# Altium footprint library Connector_Samtec_HSEC8.PcbLib: 133 footprints (part 9 of 9)
Each footprint in its own frame and in the unit in brackets; x right, y up, seen from the top. Pads: shape width x height; smd on the part's side, far side on the other; paste and mask are expansions set on the pad; w line width, h text height; cw(c..) or ccw(c..) is an arc to the next point about the centre after c.
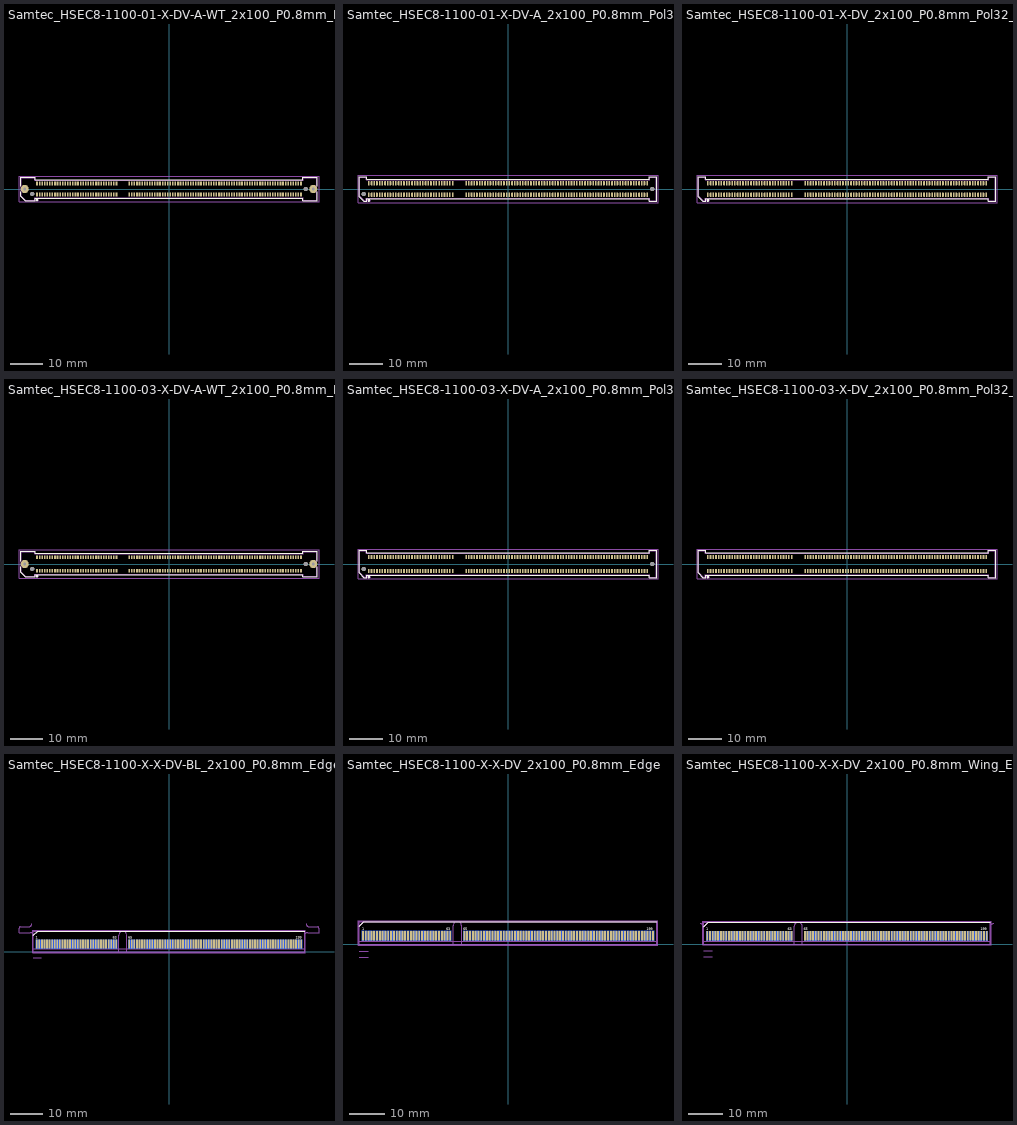
[diagram p8: the footprints below, top view; thin cyan lines are the x and y axes]

## Samtec_HSEC8-1100-01-X-DV-A-WT_2x100_P0.8mm_Pol32_Socket_WeldTabs [mm]
pads (204):
  rrect25% 0.5x1.2 smd: 1(-41.2,-1.7) 2(-41.2,1.7) 3(-40.4,-1.7) 4(-40.4,1.7) 5(-39.6,-1.7) 6(-39.6,1.7) 7(-38.8,-1.7) 8(-38.8,1.7) 9(-38,-1.7) 10(-38,1.7) 11(-37.2,-1.7) 12(-37.2,1.7) 13(-36.4,-1.7) 14(-36.4,1.7) 15(-35.6,-1.7) 16(-35.6,1.7) 17(-34.8,-1.7) 18(-34.8,1.7) 19(-34,-1.7) 20(-34,1.7) 21(-33.2,-1.7) 22(-33.2,1.7) 23(-32.4,-1.7) 24(-32.4,1.7) 25(-31.6,-1.7) 26(-31.6,1.7) 27(-30.8,-1.7) 28(-30.8,1.7) 29(-30,-1.7) 30(-30,1.7) 31(-29.2,-1.7) 32(-29.2,1.7) 33(-28.4,-1.7) 34(-28.4,1.7) 35(-27.6,-1.7) 36(-27.6,1.7) 37(-26.8,-1.7) 38(-26.8,1.7) 39(-26,-1.7) 40(-26,1.7) 41(-25.2,-1.7) 42(-25.2,1.7) 43(-24.4,-1.7) 44(-24.4,1.7) 45(-23.6,-1.7) 46(-23.6,1.7) 47(-22.8,-1.7) 48(-22.8,1.7) 49(-22,-1.7) 50(-22,1.7) 51(-21.2,-1.7) 52(-21.2,1.7) 53(-20.4,-1.7) 54(-20.4,1.7) 55(-19.6,-1.7) 56(-19.6,1.7) 57(-18.8,-1.7) 58(-18.8,1.7) 59(-18,-1.7) 60(-18,1.7) 61(-17.2,-1.7) 62(-17.2,1.7) 63(-16.4,-1.7) 64(-16.4,1.7) 65(-12.4,-1.7) 66(-12.4,1.7) 67(-11.6,-1.7) 68(-11.6,1.7) 69(-10.8,-1.7) 70(-10.8,1.7) 71(-10,-1.7) 72(-10,1.7) 73(-9.2,-1.7) 74(-9.2,1.7) 75(-8.4,-1.7) 76(-8.4,1.7) 77(-7.6,-1.7) 78(-7.6,1.7) 79(-6.8,-1.7) 80(-6.8,1.7) 81(-6,-1.7) 82(-6,1.7) 83(-5.2,-1.7) 84(-5.2,1.7) 85(-4.4,-1.7) 86(-4.4,1.7) 87(-3.6,-1.7) 88(-3.6,1.7) 89(-2.8,-1.7) 90(-2.8,1.7) 91(-2,-1.7) 92(-2,1.7) 93(-1.2,-1.7) 94(-1.2,1.7) 95(-0.4,-1.7) 96(-0.4,1.7) 97(0.4,-1.7) 98(0.4,1.7) 99(1.2,-1.7) 100(1.2,1.7) 101(2,-1.7) 102(2,1.7) 103(2.8,-1.7) 104(2.8,1.7) 105(3.6,-1.7) 106(3.6,1.7) 107(4.4,-1.7) 108(4.4,1.7) 109(5.2,-1.7) 110(5.2,1.7) 111(6,-1.7) 112(6,1.7) 113(6.8,-1.7) 114(6.8,1.7) 115(7.6,-1.7) 116(7.6,1.7) 117(8.4,-1.7) 118(8.4,1.7) 119(9.2,-1.7) 120(9.2,1.7) 121(10,-1.7) 122(10,1.7) 123(10.8,-1.7) 124(10.8,1.7) 125(11.6,-1.7) 126(11.6,1.7) 127(12.4,-1.7) 128(12.4,1.7) 129(13.2,-1.7) 130(13.2,1.7) 131(14,-1.7) 132(14,1.7) 133(14.8,-1.7) 134(14.8,1.7) 135(15.6,-1.7) 136(15.6,1.7) 137(16.4,-1.7) 138(16.4,1.7) 139(17.2,-1.7) 140(17.2,1.7) 141(18,-1.7) 142(18,1.7) 143(18.8,-1.7) 144(18.8,1.7) 145(19.6,-1.7) 146(19.6,1.7) 147(20.4,-1.7) 148(20.4,1.7) 149(21.2,-1.7) 150(21.2,1.7) 151(22,-1.7) 152(22,1.7) 153(22.8,-1.7) 154(22.8,1.7) 155(23.6,-1.7) 156(23.6,1.7) 157(24.4,-1.7) 158(24.4,1.7) 159(25.2,-1.7) 160(25.2,1.7) 161(26,-1.7) 162(26,1.7) 163(26.8,-1.7) 164(26.8,1.7) 165(27.6,-1.7) 166(27.6,1.7) 167(28.4,-1.7) 168(28.4,1.7) 169(29.2,-1.7) 170(29.2,1.7) 171(30,-1.7) 172(30,1.7) 173(30.8,-1.7) 174(30.8,1.7) 175(31.6,-1.7) 176(31.6,1.7) 177(32.4,-1.7) 178(32.4,1.7) 179(33.2,-1.7) 180(33.2,1.7) 181(34,-1.7) 182(34,1.7) 183(34.8,-1.7) 184(34.8,1.7) 185(35.6,-1.7) 186(35.6,1.7) 187(36.4,-1.7) 188(36.4,1.7) 189(37.2,-1.7) 190(37.2,1.7) 191(38,-1.7) 192(38,1.7) 193(38.8,-1.7) 194(38.8,1.7) 195(39.6,-1.7) 196(39.6,1.7) 197(40.4,-1.7) 198(40.4,1.7) 199(41.2,-1.7) 200(41.2,1.7)
  round 2.54 hole 0.84: Un1(-45.05,0) Un4(45.05,0)
  round 1.27 hole 1.27: Un2(-42.7,-1.5) Un3(42.7,0)
F.SilkS:
  circle w0.254: c-41.2,-3.4 r0.25
  lines w0.254: -46.31,-0.868 -46.31,-2.246 -44.946,-3.61 -41.79,-3.61 -41.79,-2.91 41.79,-2.91 41.79,-3.61 46.31,-3.61 46.31,-0.868 ; -46.31,0.868 -46.31,3.61 -41.79,3.61 -41.79,2.91 41.79,2.91 41.79,3.61 46.31,3.61 46.31,0.868
Top Assembly:
  lines w0.254: -46.2,-2.2 -44.9,-3.5 -41.9,-3.5 -41.9,-2.8 41.9,-2.8 41.9,-3.5 46.2,-3.5 46.2,3.5 41.9,3.5 41.9,2.8 -41.9,2.8 -41.9,3.5 -46.2,3.5 -46.2,-2.2 ; -41.6,-3.5 -40.8,-3.5 -41.2,-2.86 -41.6,-3.5
  text "'.Designator'" at -4.047,-0.84 h1
Top Courtyard:
  lines w0.254: -46.83,-4 46.83,-4 46.83,4 -46.83,4 -46.83,-4
Top Designator:
  text ".Designator" at -7.618,-0.508 h1.52

## Samtec_HSEC8-1100-01-X-DV-A_2x100_P0.8mm_Pol32_Socket_AlignmentPins [mm]
pads (202):
  rrect25% 0.5x1.2 smd: 1(-41.2,-1.7) 2(-41.2,1.7) 3(-40.4,-1.7) 4(-40.4,1.7) 5(-39.6,-1.7) 6(-39.6,1.7) 7(-38.8,-1.7) 8(-38.8,1.7) 9(-38,-1.7) 10(-38,1.7) 11(-37.2,-1.7) 12(-37.2,1.7) 13(-36.4,-1.7) 14(-36.4,1.7) 15(-35.6,-1.7) 16(-35.6,1.7) 17(-34.8,-1.7) 18(-34.8,1.7) 19(-34,-1.7) 20(-34,1.7) 21(-33.2,-1.7) 22(-33.2,1.7) 23(-32.4,-1.7) 24(-32.4,1.7) 25(-31.6,-1.7) 26(-31.6,1.7) 27(-30.8,-1.7) 28(-30.8,1.7) 29(-30,-1.7) 30(-30,1.7) 31(-29.2,-1.7) 32(-29.2,1.7) 33(-28.4,-1.7) 34(-28.4,1.7) 35(-27.6,-1.7) 36(-27.6,1.7) 37(-26.8,-1.7) 38(-26.8,1.7) 39(-26,-1.7) 40(-26,1.7) 41(-25.2,-1.7) 42(-25.2,1.7) 43(-24.4,-1.7) 44(-24.4,1.7) 45(-23.6,-1.7) 46(-23.6,1.7) 47(-22.8,-1.7) 48(-22.8,1.7) 49(-22,-1.7) 50(-22,1.7) 51(-21.2,-1.7) 52(-21.2,1.7) 53(-20.4,-1.7) 54(-20.4,1.7) 55(-19.6,-1.7) 56(-19.6,1.7) 57(-18.8,-1.7) 58(-18.8,1.7) 59(-18,-1.7) 60(-18,1.7) 61(-17.2,-1.7) 62(-17.2,1.7) 63(-16.4,-1.7) 64(-16.4,1.7) 65(-12.4,-1.7) 66(-12.4,1.7) 67(-11.6,-1.7) 68(-11.6,1.7) 69(-10.8,-1.7) 70(-10.8,1.7) 71(-10,-1.7) 72(-10,1.7) 73(-9.2,-1.7) 74(-9.2,1.7) 75(-8.4,-1.7) 76(-8.4,1.7) 77(-7.6,-1.7) 78(-7.6,1.7) 79(-6.8,-1.7) 80(-6.8,1.7) 81(-6,-1.7) 82(-6,1.7) 83(-5.2,-1.7) 84(-5.2,1.7) 85(-4.4,-1.7) 86(-4.4,1.7) 87(-3.6,-1.7) 88(-3.6,1.7) 89(-2.8,-1.7) 90(-2.8,1.7) 91(-2,-1.7) 92(-2,1.7) 93(-1.2,-1.7) 94(-1.2,1.7) 95(-0.4,-1.7) 96(-0.4,1.7) 97(0.4,-1.7) 98(0.4,1.7) 99(1.2,-1.7) 100(1.2,1.7) 101(2,-1.7) 102(2,1.7) 103(2.8,-1.7) 104(2.8,1.7) 105(3.6,-1.7) 106(3.6,1.7) 107(4.4,-1.7) 108(4.4,1.7) 109(5.2,-1.7) 110(5.2,1.7) 111(6,-1.7) 112(6,1.7) 113(6.8,-1.7) 114(6.8,1.7) 115(7.6,-1.7) 116(7.6,1.7) 117(8.4,-1.7) 118(8.4,1.7) 119(9.2,-1.7) 120(9.2,1.7) 121(10,-1.7) 122(10,1.7) 123(10.8,-1.7) 124(10.8,1.7) 125(11.6,-1.7) 126(11.6,1.7) 127(12.4,-1.7) 128(12.4,1.7) 129(13.2,-1.7) 130(13.2,1.7) 131(14,-1.7) 132(14,1.7) 133(14.8,-1.7) 134(14.8,1.7) 135(15.6,-1.7) 136(15.6,1.7) 137(16.4,-1.7) 138(16.4,1.7) 139(17.2,-1.7) 140(17.2,1.7) 141(18,-1.7) 142(18,1.7) 143(18.8,-1.7) 144(18.8,1.7) 145(19.6,-1.7) 146(19.6,1.7) 147(20.4,-1.7) 148(20.4,1.7) 149(21.2,-1.7) 150(21.2,1.7) 151(22,-1.7) 152(22,1.7) 153(22.8,-1.7) 154(22.8,1.7) 155(23.6,-1.7) 156(23.6,1.7) 157(24.4,-1.7) 158(24.4,1.7) 159(25.2,-1.7) 160(25.2,1.7) 161(26,-1.7) 162(26,1.7) 163(26.8,-1.7) 164(26.8,1.7) 165(27.6,-1.7) 166(27.6,1.7) 167(28.4,-1.7) 168(28.4,1.7) 169(29.2,-1.7) 170(29.2,1.7) 171(30,-1.7) 172(30,1.7) 173(30.8,-1.7) 174(30.8,1.7) 175(31.6,-1.7) 176(31.6,1.7) 177(32.4,-1.7) 178(32.4,1.7) 179(33.2,-1.7) 180(33.2,1.7) 181(34,-1.7) 182(34,1.7) 183(34.8,-1.7) 184(34.8,1.7) 185(35.6,-1.7) 186(35.6,1.7) 187(36.4,-1.7) 188(36.4,1.7) 189(37.2,-1.7) 190(37.2,1.7) 191(38,-1.7) 192(38,1.7) 193(38.8,-1.7) 194(38.8,1.7) 195(39.6,-1.7) 196(39.6,1.7) 197(40.4,-1.7) 198(40.4,1.7) 199(41.2,-1.7) 200(41.2,1.7)
  round 1.27 hole 1.27: Un1(-42.7,-1.5) Un2(42.7,0)
F.SilkS:
  circle w0.254: c-41.2,-3.4 r0.25
  lines w0.254: -44.01,-2.246 -42.646,-3.61 -41.79,-3.61 -41.79,-2.91 41.79,-2.91 41.79,-3.61 44.01,-3.61 44.01,3.61 41.79,3.61 41.79,2.91 -41.79,2.91 -41.79,3.61 -44.01,3.61 -44.01,-2.246
Top Assembly:
  lines w0.254: -43.9,-2.2 -42.6,-3.5 -41.9,-3.5 -41.9,-2.8 41.9,-2.8 41.9,-3.5 43.9,-3.5 43.9,3.5 41.9,3.5 41.9,2.8 -41.9,2.8 -41.9,3.5 -43.9,3.5 -43.9,-2.2 ; -41.6,-3.5 -40.8,-3.5 -41.2,-2.86 -41.6,-3.5
  text "'.Designator'" at -4.047,-0.84 h1
Top Courtyard:
  lines w0.254: -44.41,-4 44.41,-4 44.41,4 -44.41,4 -44.41,-4
Top Designator:
  text ".Designator" at -7.618,-0.508 h1.52

## Samtec_HSEC8-1100-01-X-DV_2x100_P0.8mm_Pol32_Socket [mm]
pads (200):
  rrect25% 0.5x1.2 smd: 1(-41.2,-1.7) 2(-41.2,1.7) 3(-40.4,-1.7) 4(-40.4,1.7) 5(-39.6,-1.7) 6(-39.6,1.7) 7(-38.8,-1.7) 8(-38.8,1.7) 9(-38,-1.7) 10(-38,1.7) 11(-37.2,-1.7) 12(-37.2,1.7) 13(-36.4,-1.7) 14(-36.4,1.7) 15(-35.6,-1.7) 16(-35.6,1.7) 17(-34.8,-1.7) 18(-34.8,1.7) 19(-34,-1.7) 20(-34,1.7) 21(-33.2,-1.7) 22(-33.2,1.7) 23(-32.4,-1.7) 24(-32.4,1.7) 25(-31.6,-1.7) 26(-31.6,1.7) 27(-30.8,-1.7) 28(-30.8,1.7) 29(-30,-1.7) 30(-30,1.7) 31(-29.2,-1.7) 32(-29.2,1.7) 33(-28.4,-1.7) 34(-28.4,1.7) 35(-27.6,-1.7) 36(-27.6,1.7) 37(-26.8,-1.7) 38(-26.8,1.7) 39(-26,-1.7) 40(-26,1.7) 41(-25.2,-1.7) 42(-25.2,1.7) 43(-24.4,-1.7) 44(-24.4,1.7) 45(-23.6,-1.7) 46(-23.6,1.7) 47(-22.8,-1.7) 48(-22.8,1.7) 49(-22,-1.7) 50(-22,1.7) 51(-21.2,-1.7) 52(-21.2,1.7) 53(-20.4,-1.7) 54(-20.4,1.7) 55(-19.6,-1.7) 56(-19.6,1.7) 57(-18.8,-1.7) 58(-18.8,1.7) 59(-18,-1.7) 60(-18,1.7) 61(-17.2,-1.7) 62(-17.2,1.7) 63(-16.4,-1.7) 64(-16.4,1.7) 65(-12.4,-1.7) 66(-12.4,1.7) 67(-11.6,-1.7) 68(-11.6,1.7) 69(-10.8,-1.7) 70(-10.8,1.7) 71(-10,-1.7) 72(-10,1.7) 73(-9.2,-1.7) 74(-9.2,1.7) 75(-8.4,-1.7) 76(-8.4,1.7) 77(-7.6,-1.7) 78(-7.6,1.7) 79(-6.8,-1.7) 80(-6.8,1.7) 81(-6,-1.7) 82(-6,1.7) 83(-5.2,-1.7) 84(-5.2,1.7) 85(-4.4,-1.7) 86(-4.4,1.7) 87(-3.6,-1.7) 88(-3.6,1.7) 89(-2.8,-1.7) 90(-2.8,1.7) 91(-2,-1.7) 92(-2,1.7) 93(-1.2,-1.7) 94(-1.2,1.7) 95(-0.4,-1.7) 96(-0.4,1.7) 97(0.4,-1.7) 98(0.4,1.7) 99(1.2,-1.7) 100(1.2,1.7) 101(2,-1.7) 102(2,1.7) 103(2.8,-1.7) 104(2.8,1.7) 105(3.6,-1.7) 106(3.6,1.7) 107(4.4,-1.7) 108(4.4,1.7) 109(5.2,-1.7) 110(5.2,1.7) 111(6,-1.7) 112(6,1.7) 113(6.8,-1.7) 114(6.8,1.7) 115(7.6,-1.7) 116(7.6,1.7) 117(8.4,-1.7) 118(8.4,1.7) 119(9.2,-1.7) 120(9.2,1.7) 121(10,-1.7) 122(10,1.7) 123(10.8,-1.7) 124(10.8,1.7) 125(11.6,-1.7) 126(11.6,1.7) 127(12.4,-1.7) 128(12.4,1.7) 129(13.2,-1.7) 130(13.2,1.7) 131(14,-1.7) 132(14,1.7) 133(14.8,-1.7) 134(14.8,1.7) 135(15.6,-1.7) 136(15.6,1.7) 137(16.4,-1.7) 138(16.4,1.7) 139(17.2,-1.7) 140(17.2,1.7) 141(18,-1.7) 142(18,1.7) 143(18.8,-1.7) 144(18.8,1.7) 145(19.6,-1.7) 146(19.6,1.7) 147(20.4,-1.7) 148(20.4,1.7) 149(21.2,-1.7) 150(21.2,1.7) 151(22,-1.7) 152(22,1.7) 153(22.8,-1.7) 154(22.8,1.7) 155(23.6,-1.7) 156(23.6,1.7) 157(24.4,-1.7) 158(24.4,1.7) 159(25.2,-1.7) 160(25.2,1.7) 161(26,-1.7) 162(26,1.7) 163(26.8,-1.7) 164(26.8,1.7) 165(27.6,-1.7) 166(27.6,1.7) 167(28.4,-1.7) 168(28.4,1.7) 169(29.2,-1.7) 170(29.2,1.7) 171(30,-1.7) 172(30,1.7) 173(30.8,-1.7) 174(30.8,1.7) 175(31.6,-1.7) 176(31.6,1.7) 177(32.4,-1.7) 178(32.4,1.7) 179(33.2,-1.7) 180(33.2,1.7) 181(34,-1.7) 182(34,1.7) 183(34.8,-1.7) 184(34.8,1.7) 185(35.6,-1.7) 186(35.6,1.7) 187(36.4,-1.7) 188(36.4,1.7) 189(37.2,-1.7) 190(37.2,1.7) 191(38,-1.7) 192(38,1.7) 193(38.8,-1.7) 194(38.8,1.7) 195(39.6,-1.7) 196(39.6,1.7) 197(40.4,-1.7) 198(40.4,1.7) 199(41.2,-1.7) 200(41.2,1.7)
F.SilkS:
  circle w0.254: c-41.2,-3.4 r0.25
  lines w0.254: -44.01,-2.246 -42.646,-3.61 -41.79,-3.61 -41.79,-2.91 41.79,-2.91 41.79,-3.61 44.01,-3.61 44.01,3.61 41.79,3.61 41.79,2.91 -41.79,2.91 -41.79,3.61 -44.01,3.61 -44.01,-2.246
Top Assembly:
  lines w0.254: -43.9,-2.2 -42.6,-3.5 -41.9,-3.5 -41.9,-2.8 41.9,-2.8 41.9,-3.5 43.9,-3.5 43.9,3.5 41.9,3.5 41.9,2.8 -41.9,2.8 -41.9,3.5 -43.9,3.5 -43.9,-2.2 ; -41.6,-3.5 -40.8,-3.5 -41.2,-2.86 -41.6,-3.5
  text "'.Designator'" at -4.047,-0.84 h1
Top Courtyard:
  lines w0.254: -44.41,-4 44.41,-4 44.41,4 -44.41,4 -44.41,-4
Top Designator:
  text ".Designator" at -7.618,-0.508 h1.52

## Samtec_HSEC8-1100-03-X-DV-A-WT_2x100_P0.8mm_Pol32_Socket_WeldTabs [mm]
pads (204):
  rrect25% 0.5x1.2 smd: 1(-41.2,-2.095) 2(-41.2,2.095) 3(-40.4,-2.095) 4(-40.4,2.095) 5(-39.6,-2.095) 6(-39.6,2.095) 7(-38.8,-2.095) 8(-38.8,2.095) 9(-38,-2.095) 10(-38,2.095) 11(-37.2,-2.095) 12(-37.2,2.095) 13(-36.4,-2.095) 14(-36.4,2.095) 15(-35.6,-2.095) 16(-35.6,2.095) 17(-34.8,-2.095) 18(-34.8,2.095) 19(-34,-2.095) 20(-34,2.095) 21(-33.2,-2.095) 22(-33.2,2.095) 23(-32.4,-2.095) 24(-32.4,2.095) 25(-31.6,-2.095) 26(-31.6,2.095) 27(-30.8,-2.095) 28(-30.8,2.095) 29(-30,-2.095) 30(-30,2.095) 31(-29.2,-2.095) 32(-29.2,2.095) 33(-28.4,-2.095) 34(-28.4,2.095) 35(-27.6,-2.095) 36(-27.6,2.095) 37(-26.8,-2.095) 38(-26.8,2.095) 39(-26,-2.095) 40(-26,2.095) 41(-25.2,-2.095) 42(-25.2,2.095) 43(-24.4,-2.095) 44(-24.4,2.095) 45(-23.6,-2.095) 46(-23.6,2.095) 47(-22.8,-2.095) 48(-22.8,2.095) 49(-22,-2.095) 50(-22,2.095) 51(-21.2,-2.095) 52(-21.2,2.095) 53(-20.4,-2.095) 54(-20.4,2.095) 55(-19.6,-2.095) 56(-19.6,2.095) 57(-18.8,-2.095) 58(-18.8,2.095) 59(-18,-2.095) 60(-18,2.095) 61(-17.2,-2.095) 62(-17.2,2.095) 63(-16.4,-2.095) 64(-16.4,2.095) 65(-12.4,-2.095) 66(-12.4,2.095) 67(-11.6,-2.095) 68(-11.6,2.095) 69(-10.8,-2.095) 70(-10.8,2.095) 71(-10,-2.095) 72(-10,2.095) 73(-9.2,-2.095) 74(-9.2,2.095) 75(-8.4,-2.095) 76(-8.4,2.095) 77(-7.6,-2.095) 78(-7.6,2.095) 79(-6.8,-2.095) 80(-6.8,2.095) 81(-6,-2.095) 82(-6,2.095) 83(-5.2,-2.095) 84(-5.2,2.095) 85(-4.4,-2.095) 86(-4.4,2.095) 87(-3.6,-2.095) 88(-3.6,2.095) 89(-2.8,-2.095) 90(-2.8,2.095) 91(-2,-2.095) 92(-2,2.095) 93(-1.2,-2.095) 94(-1.2,2.095) 95(-0.4,-2.095) 96(-0.4,2.095) 97(0.4,-2.095) 98(0.4,2.095) 99(1.2,-2.095) 100(1.2,2.095) 101(2,-2.095) 102(2,2.095) 103(2.8,-2.095) 104(2.8,2.095) 105(3.6,-2.095) 106(3.6,2.095) 107(4.4,-2.095) 108(4.4,2.095) 109(5.2,-2.095) 110(5.2,2.095) 111(6,-2.095) 112(6,2.095) 113(6.8,-2.095) 114(6.8,2.095) 115(7.6,-2.095) 116(7.6,2.095) 117(8.4,-2.095) 118(8.4,2.095) 119(9.2,-2.095) 120(9.2,2.095) 121(10,-2.095) 122(10,2.095) 123(10.8,-2.095) 124(10.8,2.095) 125(11.6,-2.095) 126(11.6,2.095) 127(12.4,-2.095) 128(12.4,2.095) 129(13.2,-2.095) 130(13.2,2.095) 131(14,-2.095) 132(14,2.095) 133(14.8,-2.095) 134(14.8,2.095) 135(15.6,-2.095) 136(15.6,2.095) 137(16.4,-2.095) 138(16.4,2.095) 139(17.2,-2.095) 140(17.2,2.095) 141(18,-2.095) 142(18,2.095) 143(18.8,-2.095) 144(18.8,2.095) 145(19.6,-2.095) 146(19.6,2.095) 147(20.4,-2.095) 148(20.4,2.095) 149(21.2,-2.095) 150(21.2,2.095) 151(22,-2.095) 152(22,2.095) 153(22.8,-2.095) 154(22.8,2.095) 155(23.6,-2.095) 156(23.6,2.095) 157(24.4,-2.095) 158(24.4,2.095) 159(25.2,-2.095) 160(25.2,2.095) 161(26,-2.095) 162(26,2.095) 163(26.8,-2.095) 164(26.8,2.095) 165(27.6,-2.095) 166(27.6,2.095) 167(28.4,-2.095) 168(28.4,2.095) 169(29.2,-2.095) 170(29.2,2.095) 171(30,-2.095) 172(30,2.095) 173(30.8,-2.095) 174(30.8,2.095) 175(31.6,-2.095) 176(31.6,2.095) 177(32.4,-2.095) 178(32.4,2.095) 179(33.2,-2.095) 180(33.2,2.095) 181(34,-2.095) 182(34,2.095) 183(34.8,-2.095) 184(34.8,2.095) 185(35.6,-2.095) 186(35.6,2.095) 187(36.4,-2.095) 188(36.4,2.095) 189(37.2,-2.095) 190(37.2,2.095) 191(38,-2.095) 192(38,2.095) 193(38.8,-2.095) 194(38.8,2.095) 195(39.6,-2.095) 196(39.6,2.095) 197(40.4,-2.095) 198(40.4,2.095) 199(41.2,-2.095) 200(41.2,2.095)
  round 2.54 hole 0.84: Un1(-45.05,0) Un4(45.05,0)
  round 1.27 hole 1.27: Un2(-42.7,-1.5) Un3(42.7,0)
F.SilkS:
  circle w0.254: c-41.2,-3.795 r0.25
  lines w0.254: -46.31,-0.868 -46.31,-2.641 -44.946,-4.005 -41.79,-4.005 -41.79,-3.305 41.79,-3.305 41.79,-4.005 46.31,-4.005 46.31,-0.868 ; -46.31,0.868 -46.31,4.005 -41.79,4.005 -41.79,3.305 41.79,3.305 41.79,4.005 46.31,4.005 46.31,0.868
Top Assembly:
  lines w0.254: -46.2,-2.595 -44.9,-3.895 -41.9,-3.895 -41.9,-3.195 41.9,-3.195 41.9,-3.895 46.2,-3.895 46.2,3.895 41.9,3.895 41.9,3.195 -41.9,3.195 -41.9,3.895 -46.2,3.895 -46.2,-2.595 ; -41.6,-3.895 -40.8,-3.895 -41.2,-3.255 -41.6,-3.895
  text "'.Designator'" at -4.047,-0.84 h1
Top Courtyard:
  lines w0.254: -46.83,-4.4 46.83,-4.4 46.83,4.4 -46.83,4.4 -46.83,-4.4
Top Designator:
  text ".Designator" at -7.618,-0.508 h1.52

## Samtec_HSEC8-1100-03-X-DV-A_2x100_P0.8mm_Pol32_Socket_AlignmentPins [mm]
pads (202):
  rrect25% 0.5x1.2 smd: 1(-41.2,-2.095) 2(-41.2,2.095) 3(-40.4,-2.095) 4(-40.4,2.095) 5(-39.6,-2.095) 6(-39.6,2.095) 7(-38.8,-2.095) 8(-38.8,2.095) 9(-38,-2.095) 10(-38,2.095) 11(-37.2,-2.095) 12(-37.2,2.095) 13(-36.4,-2.095) 14(-36.4,2.095) 15(-35.6,-2.095) 16(-35.6,2.095) 17(-34.8,-2.095) 18(-34.8,2.095) 19(-34,-2.095) 20(-34,2.095) 21(-33.2,-2.095) 22(-33.2,2.095) 23(-32.4,-2.095) 24(-32.4,2.095) 25(-31.6,-2.095) 26(-31.6,2.095) 27(-30.8,-2.095) 28(-30.8,2.095) 29(-30,-2.095) 30(-30,2.095) 31(-29.2,-2.095) 32(-29.2,2.095) 33(-28.4,-2.095) 34(-28.4,2.095) 35(-27.6,-2.095) 36(-27.6,2.095) 37(-26.8,-2.095) 38(-26.8,2.095) 39(-26,-2.095) 40(-26,2.095) 41(-25.2,-2.095) 42(-25.2,2.095) 43(-24.4,-2.095) 44(-24.4,2.095) 45(-23.6,-2.095) 46(-23.6,2.095) 47(-22.8,-2.095) 48(-22.8,2.095) 49(-22,-2.095) 50(-22,2.095) 51(-21.2,-2.095) 52(-21.2,2.095) 53(-20.4,-2.095) 54(-20.4,2.095) 55(-19.6,-2.095) 56(-19.6,2.095) 57(-18.8,-2.095) 58(-18.8,2.095) 59(-18,-2.095) 60(-18,2.095) 61(-17.2,-2.095) 62(-17.2,2.095) 63(-16.4,-2.095) 64(-16.4,2.095) 65(-12.4,-2.095) 66(-12.4,2.095) 67(-11.6,-2.095) 68(-11.6,2.095) 69(-10.8,-2.095) 70(-10.8,2.095) 71(-10,-2.095) 72(-10,2.095) 73(-9.2,-2.095) 74(-9.2,2.095) 75(-8.4,-2.095) 76(-8.4,2.095) 77(-7.6,-2.095) 78(-7.6,2.095) 79(-6.8,-2.095) 80(-6.8,2.095) 81(-6,-2.095) 82(-6,2.095) 83(-5.2,-2.095) 84(-5.2,2.095) 85(-4.4,-2.095) 86(-4.4,2.095) 87(-3.6,-2.095) 88(-3.6,2.095) 89(-2.8,-2.095) 90(-2.8,2.095) 91(-2,-2.095) 92(-2,2.095) 93(-1.2,-2.095) 94(-1.2,2.095) 95(-0.4,-2.095) 96(-0.4,2.095) 97(0.4,-2.095) 98(0.4,2.095) 99(1.2,-2.095) 100(1.2,2.095) 101(2,-2.095) 102(2,2.095) 103(2.8,-2.095) 104(2.8,2.095) 105(3.6,-2.095) 106(3.6,2.095) 107(4.4,-2.095) 108(4.4,2.095) 109(5.2,-2.095) 110(5.2,2.095) 111(6,-2.095) 112(6,2.095) 113(6.8,-2.095) 114(6.8,2.095) 115(7.6,-2.095) 116(7.6,2.095) 117(8.4,-2.095) 118(8.4,2.095) 119(9.2,-2.095) 120(9.2,2.095) 121(10,-2.095) 122(10,2.095) 123(10.8,-2.095) 124(10.8,2.095) 125(11.6,-2.095) 126(11.6,2.095) 127(12.4,-2.095) 128(12.4,2.095) 129(13.2,-2.095) 130(13.2,2.095) 131(14,-2.095) 132(14,2.095) 133(14.8,-2.095) 134(14.8,2.095) 135(15.6,-2.095) 136(15.6,2.095) 137(16.4,-2.095) 138(16.4,2.095) 139(17.2,-2.095) 140(17.2,2.095) 141(18,-2.095) 142(18,2.095) 143(18.8,-2.095) 144(18.8,2.095) 145(19.6,-2.095) 146(19.6,2.095) 147(20.4,-2.095) 148(20.4,2.095) 149(21.2,-2.095) 150(21.2,2.095) 151(22,-2.095) 152(22,2.095) 153(22.8,-2.095) 154(22.8,2.095) 155(23.6,-2.095) 156(23.6,2.095) 157(24.4,-2.095) 158(24.4,2.095) 159(25.2,-2.095) 160(25.2,2.095) 161(26,-2.095) 162(26,2.095) 163(26.8,-2.095) 164(26.8,2.095) 165(27.6,-2.095) 166(27.6,2.095) 167(28.4,-2.095) 168(28.4,2.095) 169(29.2,-2.095) 170(29.2,2.095) 171(30,-2.095) 172(30,2.095) 173(30.8,-2.095) 174(30.8,2.095) 175(31.6,-2.095) 176(31.6,2.095) 177(32.4,-2.095) 178(32.4,2.095) 179(33.2,-2.095) 180(33.2,2.095) 181(34,-2.095) 182(34,2.095) 183(34.8,-2.095) 184(34.8,2.095) 185(35.6,-2.095) 186(35.6,2.095) 187(36.4,-2.095) 188(36.4,2.095) 189(37.2,-2.095) 190(37.2,2.095) 191(38,-2.095) 192(38,2.095) 193(38.8,-2.095) 194(38.8,2.095) 195(39.6,-2.095) 196(39.6,2.095) 197(40.4,-2.095) 198(40.4,2.095) 199(41.2,-2.095) 200(41.2,2.095)
  round 1.27 hole 1.27: Un1(-42.7,-1.5) Un2(42.7,0)
F.SilkS:
  circle w0.254: c-41.2,-3.795 r0.25
  lines w0.254: -44.01,-2.641 -42.646,-4.005 -41.79,-4.005 -41.79,-3.305 41.79,-3.305 41.79,-4.005 44.01,-4.005 44.01,4.005 41.79,4.005 41.79,3.305 -41.79,3.305 -41.79,4.005 -44.01,4.005 -44.01,-2.641
Top Assembly:
  lines w0.254: -43.9,-2.595 -42.6,-3.895 -41.9,-3.895 -41.9,-3.195 41.9,-3.195 41.9,-3.895 43.9,-3.895 43.9,3.895 41.9,3.895 41.9,3.195 -41.9,3.195 -41.9,3.895 -43.9,3.895 -43.9,-2.595 ; -41.6,-3.895 -40.8,-3.895 -41.2,-3.255 -41.6,-3.895
  text "'.Designator'" at -4.047,-0.84 h1
Top Courtyard:
  lines w0.254: -44.41,-4.4 44.41,-4.4 44.41,4.4 -44.41,4.4 -44.41,-4.4
Top Designator:
  text ".Designator" at -7.618,-0.508 h1.52

## Samtec_HSEC8-1100-03-X-DV_2x100_P0.8mm_Pol32_Socket [mm]
pads (200):
  rrect25% 0.5x1.2 smd: 1(-41.2,-2.095) 2(-41.2,2.095) 3(-40.4,-2.095) 4(-40.4,2.095) 5(-39.6,-2.095) 6(-39.6,2.095) 7(-38.8,-2.095) 8(-38.8,2.095) 9(-38,-2.095) 10(-38,2.095) 11(-37.2,-2.095) 12(-37.2,2.095) 13(-36.4,-2.095) 14(-36.4,2.095) 15(-35.6,-2.095) 16(-35.6,2.095) 17(-34.8,-2.095) 18(-34.8,2.095) 19(-34,-2.095) 20(-34,2.095) 21(-33.2,-2.095) 22(-33.2,2.095) 23(-32.4,-2.095) 24(-32.4,2.095) 25(-31.6,-2.095) 26(-31.6,2.095) 27(-30.8,-2.095) 28(-30.8,2.095) 29(-30,-2.095) 30(-30,2.095) 31(-29.2,-2.095) 32(-29.2,2.095) 33(-28.4,-2.095) 34(-28.4,2.095) 35(-27.6,-2.095) 36(-27.6,2.095) 37(-26.8,-2.095) 38(-26.8,2.095) 39(-26,-2.095) 40(-26,2.095) 41(-25.2,-2.095) 42(-25.2,2.095) 43(-24.4,-2.095) 44(-24.4,2.095) 45(-23.6,-2.095) 46(-23.6,2.095) 47(-22.8,-2.095) 48(-22.8,2.095) 49(-22,-2.095) 50(-22,2.095) 51(-21.2,-2.095) 52(-21.2,2.095) 53(-20.4,-2.095) 54(-20.4,2.095) 55(-19.6,-2.095) 56(-19.6,2.095) 57(-18.8,-2.095) 58(-18.8,2.095) 59(-18,-2.095) 60(-18,2.095) 61(-17.2,-2.095) 62(-17.2,2.095) 63(-16.4,-2.095) 64(-16.4,2.095) 65(-12.4,-2.095) 66(-12.4,2.095) 67(-11.6,-2.095) 68(-11.6,2.095) 69(-10.8,-2.095) 70(-10.8,2.095) 71(-10,-2.095) 72(-10,2.095) 73(-9.2,-2.095) 74(-9.2,2.095) 75(-8.4,-2.095) 76(-8.4,2.095) 77(-7.6,-2.095) 78(-7.6,2.095) 79(-6.8,-2.095) 80(-6.8,2.095) 81(-6,-2.095) 82(-6,2.095) 83(-5.2,-2.095) 84(-5.2,2.095) 85(-4.4,-2.095) 86(-4.4,2.095) 87(-3.6,-2.095) 88(-3.6,2.095) 89(-2.8,-2.095) 90(-2.8,2.095) 91(-2,-2.095) 92(-2,2.095) 93(-1.2,-2.095) 94(-1.2,2.095) 95(-0.4,-2.095) 96(-0.4,2.095) 97(0.4,-2.095) 98(0.4,2.095) 99(1.2,-2.095) 100(1.2,2.095) 101(2,-2.095) 102(2,2.095) 103(2.8,-2.095) 104(2.8,2.095) 105(3.6,-2.095) 106(3.6,2.095) 107(4.4,-2.095) 108(4.4,2.095) 109(5.2,-2.095) 110(5.2,2.095) 111(6,-2.095) 112(6,2.095) 113(6.8,-2.095) 114(6.8,2.095) 115(7.6,-2.095) 116(7.6,2.095) 117(8.4,-2.095) 118(8.4,2.095) 119(9.2,-2.095) 120(9.2,2.095) 121(10,-2.095) 122(10,2.095) 123(10.8,-2.095) 124(10.8,2.095) 125(11.6,-2.095) 126(11.6,2.095) 127(12.4,-2.095) 128(12.4,2.095) 129(13.2,-2.095) 130(13.2,2.095) 131(14,-2.095) 132(14,2.095) 133(14.8,-2.095) 134(14.8,2.095) 135(15.6,-2.095) 136(15.6,2.095) 137(16.4,-2.095) 138(16.4,2.095) 139(17.2,-2.095) 140(17.2,2.095) 141(18,-2.095) 142(18,2.095) 143(18.8,-2.095) 144(18.8,2.095) 145(19.6,-2.095) 146(19.6,2.095) 147(20.4,-2.095) 148(20.4,2.095) 149(21.2,-2.095) 150(21.2,2.095) 151(22,-2.095) 152(22,2.095) 153(22.8,-2.095) 154(22.8,2.095) 155(23.6,-2.095) 156(23.6,2.095) 157(24.4,-2.095) 158(24.4,2.095) 159(25.2,-2.095) 160(25.2,2.095) 161(26,-2.095) 162(26,2.095) 163(26.8,-2.095) 164(26.8,2.095) 165(27.6,-2.095) 166(27.6,2.095) 167(28.4,-2.095) 168(28.4,2.095) 169(29.2,-2.095) 170(29.2,2.095) 171(30,-2.095) 172(30,2.095) 173(30.8,-2.095) 174(30.8,2.095) 175(31.6,-2.095) 176(31.6,2.095) 177(32.4,-2.095) 178(32.4,2.095) 179(33.2,-2.095) 180(33.2,2.095) 181(34,-2.095) 182(34,2.095) 183(34.8,-2.095) 184(34.8,2.095) 185(35.6,-2.095) 186(35.6,2.095) 187(36.4,-2.095) 188(36.4,2.095) 189(37.2,-2.095) 190(37.2,2.095) 191(38,-2.095) 192(38,2.095) 193(38.8,-2.095) 194(38.8,2.095) 195(39.6,-2.095) 196(39.6,2.095) 197(40.4,-2.095) 198(40.4,2.095) 199(41.2,-2.095) 200(41.2,2.095)
F.SilkS:
  circle w0.254: c-41.2,-3.795 r0.25
  lines w0.254: -44.01,-2.641 -42.646,-4.005 -41.79,-4.005 -41.79,-3.305 41.79,-3.305 41.79,-4.005 44.01,-4.005 44.01,4.005 41.79,4.005 41.79,3.305 -41.79,3.305 -41.79,4.005 -44.01,4.005 -44.01,-2.641
Top Assembly:
  lines w0.254: -43.9,-2.595 -42.6,-3.895 -41.9,-3.895 -41.9,-3.195 41.9,-3.195 41.9,-3.895 43.9,-3.895 43.9,3.895 41.9,3.895 41.9,3.195 -41.9,3.195 -41.9,3.895 -43.9,3.895 -43.9,-2.595 ; -41.6,-3.895 -40.8,-3.895 -41.2,-3.255 -41.6,-3.895
  text "'.Designator'" at -4.047,-0.84 h1
Top Courtyard:
  lines w0.254: -44.41,-4.4 44.41,-4.4 44.41,4.4 -44.41,4.4 -44.41,-4.4
Top Designator:
  text ".Designator" at -7.618,-0.508 h1.52

## Samtec_HSEC8-1100-X-X-DV-BL_2x100_P0.8mm_Edge [mm]
pads (200):
  rect 0.55x2.8 smd: 1(-41.2,2.4) 3(-40.4,2.4) 5(-39.6,2.4) 7(-38.8,2.4) 9(-38,2.4) 11(-37.2,2.4) 13(-36.4,2.4) 15(-35.6,2.4) 17(-34.8,2.4) 19(-34,2.4) 21(-33.2,2.4) 23(-32.4,2.4) 25(-31.6,2.4) 27(-30.8,2.4) 29(-30,2.4) 31(-29.2,2.4) 33(-28.4,2.4) 35(-27.6,2.4) 37(-26.8,2.4) 39(-26,2.4) 41(-25.2,2.4) 43(-24.4,2.4) 45(-23.6,2.4) 47(-22.8,2.4) 49(-22,2.4) 51(-21.2,2.4) 53(-20.4,2.4) 55(-19.6,2.4) 57(-18.8,2.4) 59(-18,2.4) 61(-17.2,2.4) 63(-16.4,2.4) 65(-12.4,2.4) 67(-11.6,2.4) 69(-10.8,2.4) 71(-10,2.4) 73(-9.2,2.4) 75(-8.4,2.4) 77(-7.6,2.4) 79(-6.8,2.4) 81(-6,2.4) 83(-5.2,2.4) 85(-4.4,2.4) 87(-3.6,2.4) 89(-2.8,2.4) 91(-2,2.4) 93(-1.2,2.4) 95(-0.4,2.4) 97(0.4,2.4) 99(1.2,2.4) 101(2,2.4) 103(2.8,2.4) 105(3.6,2.4) 107(4.4,2.4) 109(5.2,2.4) 111(6,2.4) 113(6.8,2.4) 115(7.6,2.4) 117(8.4,2.4) 119(9.2,2.4) 121(10,2.4) 123(10.8,2.4) 125(11.6,2.4) 127(12.4,2.4) 129(13.2,2.4) 131(14,2.4) 133(14.8,2.4) 135(15.6,2.4) 137(16.4,2.4) 139(17.2,2.4) 141(18,2.4) 143(18.8,2.4) 145(19.6,2.4) 147(20.4,2.4) 149(21.2,2.4) 151(22,2.4) 153(22.8,2.4) 155(23.6,2.4) 157(24.4,2.4) 159(25.2,2.4) 161(26,2.4) 163(26.8,2.4) 165(27.6,2.4) 167(28.4,2.4) 169(29.2,2.4) 171(30,2.4) 173(30.8,2.4) 175(31.6,2.4) 177(32.4,2.4) 179(33.2,2.4) 181(34,2.4) 183(34.8,2.4) 185(35.6,2.4) 187(36.4,2.4) 189(37.2,2.4) 191(38,2.4) 193(38.8,2.4) 195(39.6,2.4) 197(40.4,2.4) 199(41.2,2.4)
  rect 0.55x2.8 smd far side: 2(-41.2,2.4) 4(-40.4,2.4) 6(-39.6,2.4) 8(-38.8,2.4) 10(-38,2.4) 12(-37.2,2.4) 14(-36.4,2.4) 16(-35.6,2.4) 18(-34.8,2.4) 20(-34,2.4) 22(-33.2,2.4) 24(-32.4,2.4) 26(-31.6,2.4) 28(-30.8,2.4) 30(-30,2.4) 32(-29.2,2.4) 34(-28.4,2.4) 36(-27.6,2.4) 38(-26.8,2.4) 40(-26,2.4) 42(-25.2,2.4) 44(-24.4,2.4) 46(-23.6,2.4) 48(-22.8,2.4) 50(-22,2.4) 52(-21.2,2.4) 54(-20.4,2.4) 56(-19.6,2.4) 58(-18.8,2.4) 60(-18,2.4) 62(-17.2,2.4) 64(-16.4,2.4) 66(-12.4,2.4) 68(-11.6,2.4) 70(-10.8,2.4) 72(-10,2.4) 74(-9.2,2.4) 76(-8.4,2.4) 78(-7.6,2.4) 80(-6.8,2.4) 82(-6,2.4) 84(-5.2,2.4) 86(-4.4,2.4) 88(-3.6,2.4) 90(-2.8,2.4) 92(-2,2.4) 94(-1.2,2.4) 96(-0.4,2.4) 98(0.4,2.4) 100(1.2,2.4) 102(2,2.4) 104(2.8,2.4) 106(3.6,2.4) 108(4.4,2.4) 110(5.2,2.4) 112(6,2.4) 114(6.8,2.4) 116(7.6,2.4) 118(8.4,2.4) 120(9.2,2.4) 122(10,2.4) 124(10.8,2.4) 126(11.6,2.4) 128(12.4,2.4) 130(13.2,2.4) 132(14,2.4) 134(14.8,2.4) 136(15.6,2.4) 138(16.4,2.4) 140(17.2,2.4) 142(18,2.4) 144(18.8,2.4) 146(19.6,2.4) 148(20.4,2.4) 150(21.2,2.4) 152(22,2.4) 154(22.8,2.4) 156(23.6,2.4) 158(24.4,2.4) 160(25.2,2.4) 162(26,2.4) 164(26.8,2.4) 166(27.6,2.4) 168(28.4,2.4) 170(29.2,2.4) 172(30,2.4) 174(30.8,2.4) 176(31.6,2.4) 178(32.4,2.4) 180(33.2,2.4) 182(34,2.4) 184(34.8,2.4) 186(35.6,2.4) 188(36.4,2.4) 190(37.2,2.4) 192(38,2.4) 194(38.8,2.4) 196(39.6,2.4) 198(40.4,2.4) 200(41.2,2.4)
F.SilkS:
  lines w0.254: -42.225,5.13 -40.955,6.4 42.225,6.4
  text "199" at 39.459,4.025 h0.75
  text "65" at -12.739,4.025 h0.75
  text "63" at -17.489,4.025 h0.75
  text "1" at -41.439,4.025 h0.75
B.SilkS:
  lines w0.254: -42.225,6.4 42.225,6.4
  text "200" at 41.518,4.025 h0.75
  text "66" at -11.329,4.025 h0.75
  text "64" at -16.043,4.025 h0.75
  text "2" at -40.8,4.025 h0.75
Top Assembly:
  lines w0.254: -42.225,0.88 42.225,0.88 ; -42.225,0 42.225,0 42.225,6.4 -40.955,6.4 -42.225,5.13 -42.225,0
  text "'.Designator'" at -4.047,1.7 h1
Bottom Assembly:
  lines w0.254: -42.225,0.88 42.225,0.88 ; -42.225,0 42.225,0 42.225,6.4 -42.225,6.4 -42.225,0
Top Courtyard:
  lines w0.254: -42.48,-0.25 42.48,-0.25 42.48,6.65 -42.48,6.65 -42.48,-0.25
Bottom Courtyard:
  lines w0.254: -42.48,-0.25 42.48,-0.25 42.48,6.65 -42.48,6.65 -42.48,-0.25
Top Designator:
  text ".Designator" at -7.618,2.485 h1.52
Board Shape:
  lines w0.254: -42.725,8.78 cw(c-43.725,8.78) -43.725,7.78 -46.325,7.78 ccw(c-46.325,7.38) -46.725,7.38 -46.725,6 -43.225,6 cw(c-43.225,5) -42.225,5 -42.225,0 -15.595,0 -15.595,5.2 cw(c-14.395,5.2) -13.195,5.2 -13.195,0 42.225,0 42.225,5 cw(c43.225,5) 43.225,6 46.725,6 46.725,7.38 ccw(c46.325,7.38) 46.325,7.78 43.725,7.78 cw(c43.725,8.78) 42.725,8.78
Cmts.User:
  lines w0.254: -42.225,-1.8 -39.725,-1.8
  text "mated PCB distance: 1.80 mm (ref)" at -39.63,-2.521 h0.75
  text "Chamfer 30 degree 0.45 mm" at -7.868,-0.21 h0.75

## Samtec_HSEC8-1100-X-X-DV_2x100_P0.8mm_Edge [mm]
pads (200):
  rect 0.55x2.8 smd: 1(-41.2,2.4) 3(-40.4,2.4) 5(-39.6,2.4) 7(-38.8,2.4) 9(-38,2.4) 11(-37.2,2.4) 13(-36.4,2.4) 15(-35.6,2.4) 17(-34.8,2.4) 19(-34,2.4) 21(-33.2,2.4) 23(-32.4,2.4) 25(-31.6,2.4) 27(-30.8,2.4) 29(-30,2.4) 31(-29.2,2.4) 33(-28.4,2.4) 35(-27.6,2.4) 37(-26.8,2.4) 39(-26,2.4) 41(-25.2,2.4) 43(-24.4,2.4) 45(-23.6,2.4) 47(-22.8,2.4) 49(-22,2.4) 51(-21.2,2.4) 53(-20.4,2.4) 55(-19.6,2.4) 57(-18.8,2.4) 59(-18,2.4) 61(-17.2,2.4) 63(-16.4,2.4) 65(-12.4,2.4) 67(-11.6,2.4) 69(-10.8,2.4) 71(-10,2.4) 73(-9.2,2.4) 75(-8.4,2.4) 77(-7.6,2.4) 79(-6.8,2.4) 81(-6,2.4) 83(-5.2,2.4) 85(-4.4,2.4) 87(-3.6,2.4) 89(-2.8,2.4) 91(-2,2.4) 93(-1.2,2.4) 95(-0.4,2.4) 97(0.4,2.4) 99(1.2,2.4) 101(2,2.4) 103(2.8,2.4) 105(3.6,2.4) 107(4.4,2.4) 109(5.2,2.4) 111(6,2.4) 113(6.8,2.4) 115(7.6,2.4) 117(8.4,2.4) 119(9.2,2.4) 121(10,2.4) 123(10.8,2.4) 125(11.6,2.4) 127(12.4,2.4) 129(13.2,2.4) 131(14,2.4) 133(14.8,2.4) 135(15.6,2.4) 137(16.4,2.4) 139(17.2,2.4) 141(18,2.4) 143(18.8,2.4) 145(19.6,2.4) 147(20.4,2.4) 149(21.2,2.4) 151(22,2.4) 153(22.8,2.4) 155(23.6,2.4) 157(24.4,2.4) 159(25.2,2.4) 161(26,2.4) 163(26.8,2.4) 165(27.6,2.4) 167(28.4,2.4) 169(29.2,2.4) 171(30,2.4) 173(30.8,2.4) 175(31.6,2.4) 177(32.4,2.4) 179(33.2,2.4) 181(34,2.4) 183(34.8,2.4) 185(35.6,2.4) 187(36.4,2.4) 189(37.2,2.4) 191(38,2.4) 193(38.8,2.4) 195(39.6,2.4) 197(40.4,2.4) 199(41.2,2.4)
  rect 0.55x2.8 smd far side: 2(-41.2,2.4) 4(-40.4,2.4) 6(-39.6,2.4) 8(-38.8,2.4) 10(-38,2.4) 12(-37.2,2.4) 14(-36.4,2.4) 16(-35.6,2.4) 18(-34.8,2.4) 20(-34,2.4) 22(-33.2,2.4) 24(-32.4,2.4) 26(-31.6,2.4) 28(-30.8,2.4) 30(-30,2.4) 32(-29.2,2.4) 34(-28.4,2.4) 36(-27.6,2.4) 38(-26.8,2.4) 40(-26,2.4) 42(-25.2,2.4) 44(-24.4,2.4) 46(-23.6,2.4) 48(-22.8,2.4) 50(-22,2.4) 52(-21.2,2.4) 54(-20.4,2.4) 56(-19.6,2.4) 58(-18.8,2.4) 60(-18,2.4) 62(-17.2,2.4) 64(-16.4,2.4) 66(-12.4,2.4) 68(-11.6,2.4) 70(-10.8,2.4) 72(-10,2.4) 74(-9.2,2.4) 76(-8.4,2.4) 78(-7.6,2.4) 80(-6.8,2.4) 82(-6,2.4) 84(-5.2,2.4) 86(-4.4,2.4) 88(-3.6,2.4) 90(-2.8,2.4) 92(-2,2.4) 94(-1.2,2.4) 96(-0.4,2.4) 98(0.4,2.4) 100(1.2,2.4) 102(2,2.4) 104(2.8,2.4) 106(3.6,2.4) 108(4.4,2.4) 110(5.2,2.4) 112(6,2.4) 114(6.8,2.4) 116(7.6,2.4) 118(8.4,2.4) 120(9.2,2.4) 122(10,2.4) 124(10.8,2.4) 126(11.6,2.4) 128(12.4,2.4) 130(13.2,2.4) 132(14,2.4) 134(14.8,2.4) 136(15.6,2.4) 138(16.4,2.4) 140(17.2,2.4) 142(18,2.4) 144(18.8,2.4) 146(19.6,2.4) 148(20.4,2.4) 150(21.2,2.4) 152(22,2.4) 154(22.8,2.4) 156(23.6,2.4) 158(24.4,2.4) 160(25.2,2.4) 162(26,2.4) 164(26.8,2.4) 166(27.6,2.4) 168(28.4,2.4) 170(29.2,2.4) 172(30,2.4) 174(30.8,2.4) 176(31.6,2.4) 178(32.4,2.4) 180(33.2,2.4) 182(34,2.4) 184(34.8,2.4) 186(35.6,2.4) 188(36.4,2.4) 190(37.2,2.4) 192(38,2.4) 194(38.8,2.4) 196(39.6,2.4) 198(40.4,2.4) 200(41.2,2.4)
F.SilkS:
  lines w0.254: -42.225,5.13 -40.955,6.4 42.225,6.4
  text "199" at 39.459,4.025 h0.75
  text "65" at -12.739,4.025 h0.75
  text "63" at -17.489,4.025 h0.75
  text "1" at -41.439,4.025 h0.75
B.SilkS:
  lines w0.254: -42.225,6.4 42.225,6.4
  text "200" at 41.518,4.025 h0.75
  text "66" at -11.329,4.025 h0.75
  text "64" at -16.043,4.025 h0.75
  text "2" at -40.8,4.025 h0.75
Top Assembly:
  lines w0.254: -42.225,0.88 42.225,0.88 ; -42.225,0 42.225,0 42.225,6.4 -40.955,6.4 -42.225,5.13 -42.225,0
  text "'.Designator'" at -4.047,1.7 h1
Bottom Assembly:
  lines w0.254: -42.225,0.88 42.225,0.88 ; -42.225,0 42.225,0 42.225,6.4 -42.225,6.4 -42.225,0
Top Courtyard:
  lines w0.254: -42.48,-0.25 42.48,-0.25 42.48,6.65 -42.48,6.65 -42.48,-0.25
Bottom Courtyard:
  lines w0.254: -42.48,-0.25 42.48,-0.25 42.48,6.65 -42.48,6.65 -42.48,-0.25
Top Designator:
  text ".Designator" at -7.618,0.475 h1.52
Board Shape:
  lines w0.254: -42.225,5 -42.225,0 -15.595,0 -15.595,5.2 cw(c-14.395,5.2) -13.195,5.2 -13.195,0 42.225,0 42.225,5
Cmts.User:
  lines w0.254: -42.225,-3.69 -39.725,-3.69 ; -42.225,-2.05 -39.725,-2.05
  text "mated PCB distance: 3.69 mm (max)" at -39.63,-4.411 h0.75
  text "mated PCB distance: 2.05 mm (min)" at -39.63,-2.771 h0.75
  text "Chamfer 30 degree 0.45 mm" at -7.868,-0.21 h0.75

## Samtec_HSEC8-1100-X-X-DV_2x100_P0.8mm_Wing_Edge [mm]
pads (200):
  rect 0.55x2.8 smd: 1(-41.2,2.4) 3(-40.4,2.4) 5(-39.6,2.4) 7(-38.8,2.4) 9(-38,2.4) 11(-37.2,2.4) 13(-36.4,2.4) 15(-35.6,2.4) 17(-34.8,2.4) 19(-34,2.4) 21(-33.2,2.4) 23(-32.4,2.4) 25(-31.6,2.4) 27(-30.8,2.4) 29(-30,2.4) 31(-29.2,2.4) 33(-28.4,2.4) 35(-27.6,2.4) 37(-26.8,2.4) 39(-26,2.4) 41(-25.2,2.4) 43(-24.4,2.4) 45(-23.6,2.4) 47(-22.8,2.4) 49(-22,2.4) 51(-21.2,2.4) 53(-20.4,2.4) 55(-19.6,2.4) 57(-18.8,2.4) 59(-18,2.4) 61(-17.2,2.4) 63(-16.4,2.4) 65(-12.4,2.4) 67(-11.6,2.4) 69(-10.8,2.4) 71(-10,2.4) 73(-9.2,2.4) 75(-8.4,2.4) 77(-7.6,2.4) 79(-6.8,2.4) 81(-6,2.4) 83(-5.2,2.4) 85(-4.4,2.4) 87(-3.6,2.4) 89(-2.8,2.4) 91(-2,2.4) 93(-1.2,2.4) 95(-0.4,2.4) 97(0.4,2.4) 99(1.2,2.4) 101(2,2.4) 103(2.8,2.4) 105(3.6,2.4) 107(4.4,2.4) 109(5.2,2.4) 111(6,2.4) 113(6.8,2.4) 115(7.6,2.4) 117(8.4,2.4) 119(9.2,2.4) 121(10,2.4) 123(10.8,2.4) 125(11.6,2.4) 127(12.4,2.4) 129(13.2,2.4) 131(14,2.4) 133(14.8,2.4) 135(15.6,2.4) 137(16.4,2.4) 139(17.2,2.4) 141(18,2.4) 143(18.8,2.4) 145(19.6,2.4) 147(20.4,2.4) 149(21.2,2.4) 151(22,2.4) 153(22.8,2.4) 155(23.6,2.4) 157(24.4,2.4) 159(25.2,2.4) 161(26,2.4) 163(26.8,2.4) 165(27.6,2.4) 167(28.4,2.4) 169(29.2,2.4) 171(30,2.4) 173(30.8,2.4) 175(31.6,2.4) 177(32.4,2.4) 179(33.2,2.4) 181(34,2.4) 183(34.8,2.4) 185(35.6,2.4) 187(36.4,2.4) 189(37.2,2.4) 191(38,2.4) 193(38.8,2.4) 195(39.6,2.4) 197(40.4,2.4) 199(41.2,2.4)
  rect 0.55x2.8 smd far side: 2(-41.2,2.4) 4(-40.4,2.4) 6(-39.6,2.4) 8(-38.8,2.4) 10(-38,2.4) 12(-37.2,2.4) 14(-36.4,2.4) 16(-35.6,2.4) 18(-34.8,2.4) 20(-34,2.4) 22(-33.2,2.4) 24(-32.4,2.4) 26(-31.6,2.4) 28(-30.8,2.4) 30(-30,2.4) 32(-29.2,2.4) 34(-28.4,2.4) 36(-27.6,2.4) 38(-26.8,2.4) 40(-26,2.4) 42(-25.2,2.4) 44(-24.4,2.4) 46(-23.6,2.4) 48(-22.8,2.4) 50(-22,2.4) 52(-21.2,2.4) 54(-20.4,2.4) 56(-19.6,2.4) 58(-18.8,2.4) 60(-18,2.4) 62(-17.2,2.4) 64(-16.4,2.4) 66(-12.4,2.4) 68(-11.6,2.4) 70(-10.8,2.4) 72(-10,2.4) 74(-9.2,2.4) 76(-8.4,2.4) 78(-7.6,2.4) 80(-6.8,2.4) 82(-6,2.4) 84(-5.2,2.4) 86(-4.4,2.4) 88(-3.6,2.4) 90(-2.8,2.4) 92(-2,2.4) 94(-1.2,2.4) 96(-0.4,2.4) 98(0.4,2.4) 100(1.2,2.4) 102(2,2.4) 104(2.8,2.4) 106(3.6,2.4) 108(4.4,2.4) 110(5.2,2.4) 112(6,2.4) 114(6.8,2.4) 116(7.6,2.4) 118(8.4,2.4) 120(9.2,2.4) 122(10,2.4) 124(10.8,2.4) 126(11.6,2.4) 128(12.4,2.4) 130(13.2,2.4) 132(14,2.4) 134(14.8,2.4) 136(15.6,2.4) 138(16.4,2.4) 140(17.2,2.4) 142(18,2.4) 144(18.8,2.4) 146(19.6,2.4) 148(20.4,2.4) 150(21.2,2.4) 152(22,2.4) 154(22.8,2.4) 156(23.6,2.4) 158(24.4,2.4) 160(25.2,2.4) 162(26,2.4) 164(26.8,2.4) 166(27.6,2.4) 168(28.4,2.4) 170(29.2,2.4) 172(30,2.4) 174(30.8,2.4) 176(31.6,2.4) 178(32.4,2.4) 180(33.2,2.4) 182(34,2.4) 184(34.8,2.4) 186(35.6,2.4) 188(36.4,2.4) 190(37.2,2.4) 192(38,2.4) 194(38.8,2.4) 196(39.6,2.4) 198(40.4,2.4) 200(41.2,2.4)
F.SilkS:
  lines w0.254: -42.225,5.13 -40.955,6.4 42.225,6.4
  text "199" at 39.459,4.025 h0.75
  text "65" at -12.739,4.025 h0.75
  text "63" at -17.489,4.025 h0.75
  text "1" at -41.439,4.025 h0.75
B.SilkS:
  lines w0.254: -42.225,6.4 42.225,6.4
  text "200" at 41.518,4.025 h0.75
  text "66" at -11.329,4.025 h0.75
  text "64" at -16.043,4.025 h0.75
  text "2" at -40.8,4.025 h0.75
Top Assembly:
  lines w0.254: -42.225,0.88 42.225,0.88 ; -42.225,0 42.225,0 42.225,6.4 -40.955,6.4 -42.225,5.13 -42.225,0
  text "'.Designator'" at -4.047,1.7 h1
Bottom Assembly:
  lines w0.254: -42.225,0.88 42.225,0.88 ; -42.225,0 42.225,0 42.225,6.4 -42.225,6.4 -42.225,0
Top Courtyard:
  lines w0.254: -42.48,-0.25 42.48,-0.25 42.48,6.65 -42.48,6.65 -42.48,-0.25
Bottom Courtyard:
  lines w0.254: -42.48,-0.25 42.48,-0.25 42.48,6.65 -42.48,6.65 -42.48,-0.25
Top Designator:
  text ".Designator" at -7.618,0.475 h1.52
Board Shape:
  lines w0.254: -43.225,6 cw(c-43.225,5) -42.225,5 -42.225,0 -15.595,0 -15.595,5.2 cw(c-14.395,5.2) -13.195,5.2 -13.195,0 42.225,0 42.225,5 cw(c43.225,5) 43.225,6
Cmts.User:
  lines w0.254: -42.225,-3.69 -39.725,-3.69 ; -42.225,-2.05 -39.725,-2.05
  text "mated PCB distance: 3.69 mm (max)" at -39.63,-4.411 h0.75
  text "mated PCB distance: 2.05 mm (min)" at -39.63,-2.771 h0.75
  text "Chamfer 30 degree 0.45 mm" at -7.868,-0.21 h0.75